# Altium schematic symbol library Componentes.SchLib: 30 symbols
Pins are listed as number, name and electrical type; pins without a type are passive.

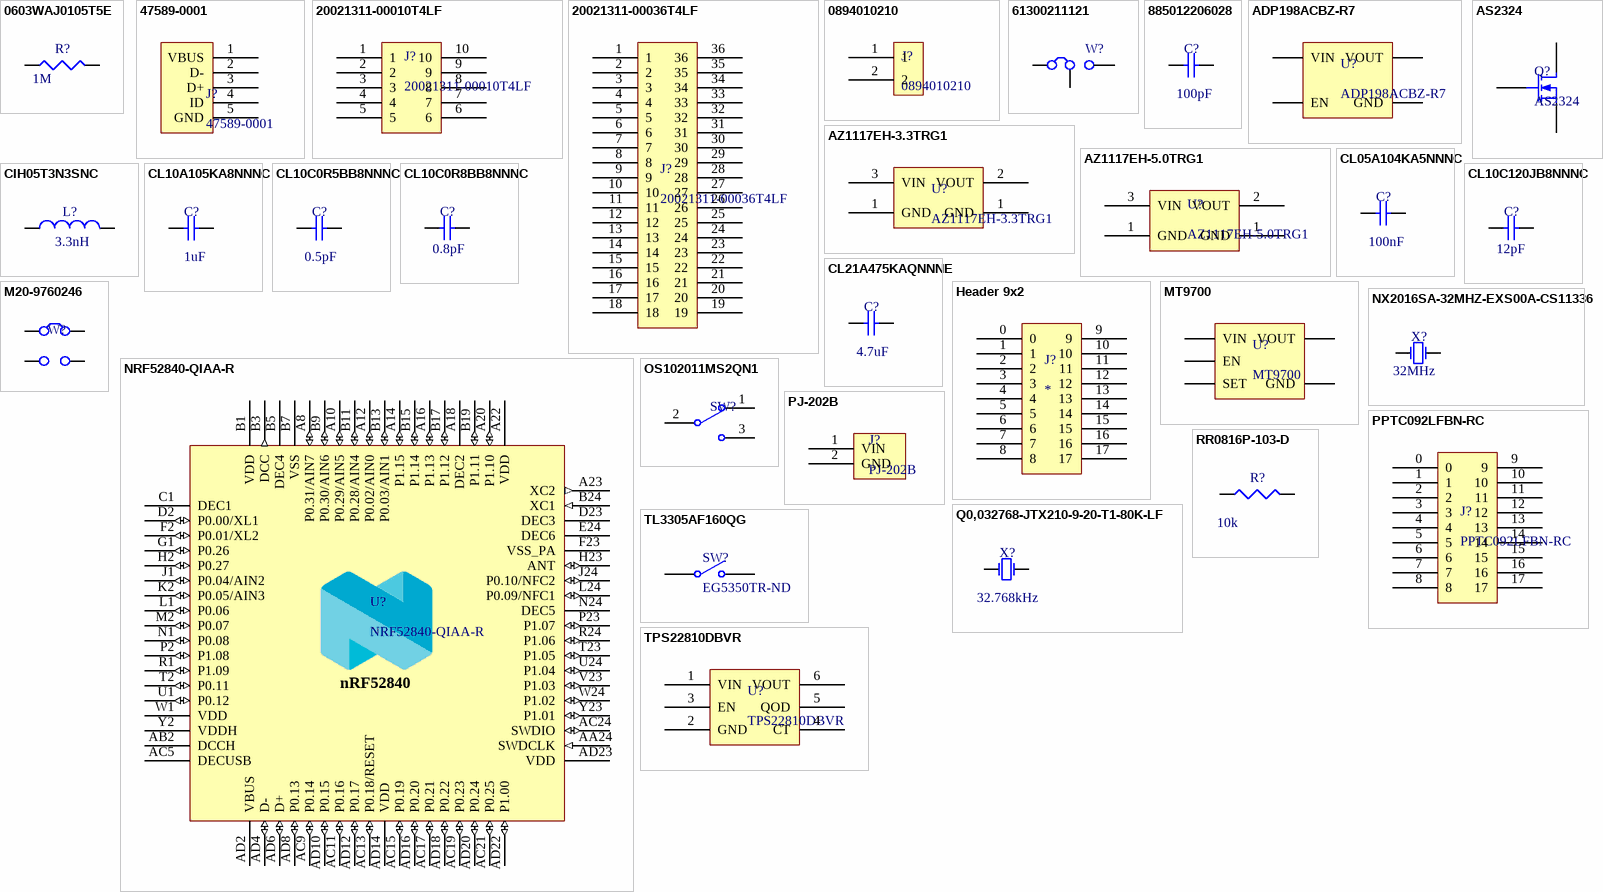
[diagram p0: symbols 0603WAJ0105T5E to TPS22810DBVR]

## 0603WAJ0105T5E
designator R?  value 1M  (hidden comment: 0603WAJ0105T5E)
footprint RESC1608X06N (Chip Resistor, 2-Leads, Body 1,60x0,80mm, IPC Medium Density)
pins: 1, 2

## 47589-0001
designator J?
MOLEX         47589-0001            MICRO USB, 2.0 TYPE AB, RECEPTACLE, SMT; Max Voltage Rating (AC): 100V; Gender: Female; Connector Type: Receptacle,USB; Number of Ports: 1; Number of Contacts: 5; Contact Resistance: 40mR; Current Rating: 1.8A; Voltage Rating (AC): 30V; USB Standard: USB 2.0; Pitch: 0.65mm; Checked: False; Supplier 1: Digi-Key; Manufacturer: Molex; Manufacturer Part Number: 47589-0001; Stock 1: 66825; Pricing 1: 1=0.74, 10=0.649, 25=0.6108, 50=0.5854, 100=0.56, 250=0.5091, 500=0.4582 (USD); Mount: PCB,Surface Mount; Weight: 0.01lb; Contact Plating: Gold; Contact Material: Copper,Copper Alloy; Number of Terminals: 5; Housing Material: Polymer; Colour: Black; Min Operating Temperature: -20°C; Max Operating Temperature: 85°C; Packaging: Tape and Reel; Termination: Solder; Orientation: Right Angle; Voltage Rating: 30V; Length: 8.65mm; Height: 0.25inch; Width: 0.25inch; Radiation Hardening: No; REACH SVHC: Unknown; Supplier Part Number 1: WM17143CT-ND
footprint USB
pins: 1 VBUS (power), 2 D- (power), 3 D+ (power), 4 ID (power), 5 GND (power)

## 20021311-00010T4LF
designator J?
10 Position Receptacle Connector 0.050" (1.27mm) Through Hole Gold; Manufacturer: Amphenol FCI; Contact Resistance: 30mR; Current Rating: 1A; Voltage Rating: 125V; Number of Positions: 10; Connector Type: Receptacle,Socket; Insulation Resistance: 1GR; Row Spacing: 0.05inch; Checked: False; Supplier 1: Digi-Key; Manufacturer Part Number: 20021311-00010T4LF; Stock 1: 21801; Pricing 1: 1=1.03, 86=0.8154, 172=0.7799, 516=0.6381, 1032=0.5672, 5074=0.4963, 10062=0.4715 (USD); Mount: Through Hole; Contact Plating: Gold; Contact Material: Copper,Copper Alloy,Gold; Colour: Black; Housing Material: Thermoplastic; Min Operating Temperature: -55°C; Max Operating Temperature: 125°C; Number of Rows: 2; Packaging: Rail/Tube; Package Quantity: 86; Termination: Solder; Max Voltage Rating (AC): 125V; Number of Contacts: 10; Gender: Receptacle; Orientation: Straight; Contact Gender: Male; Length: 5.08mm; Pitch: 1.27mm; Depth: 3mm; Termination Post Length: 2.4mm; REACH SVHC: No SVHC; Lead Free: Lead Free; Flammability Rating: UL94 V-0; Supplier Part Number 1: 609-3754-ND
footprint DIP10
pins: 1 (power), 2 (power), 3 (power), 4 (power), 5 (power), 6 (power), 7 (power), 8 (power), 9 (power), 10 (power)

## 20021311-00036T4LF
designator J?
36 Position Receptacle Connector 0.050" (1.27mm) Through Hole Gold; Manufacturer: Amphenol FCI; Current Rating: 1A; Voltage Rating: 125V; Contact Resistance: 30mR; Number of Positions: 36; Connector Type: Receptacle,Socket; Gender: Female; Row Spacing: 0.05inch; CHECKED: false; Supplier 1: Digi-Key; Manufacturer Part Number: 20021311-00036T4LF; Stock 1: 859; Pricing 1: 1=2.66, 25=2.3368, 100=2.1242, 500=1.8056, 1000=1.5401, 5000=1.3807 (USD); Mount: Through Hole; Contact Plating: Gold; Contact Material: Copper Alloy; Colour: Black; Housing Material: Plastic; Min Operating Temperature: -40°C; Max Operating Temperature: 85°C; Packaging: Rail/Tube; Number of Rows: 2; Package Quantity: 25; Termination: Solder; Number of Contacts: 36; Max Voltage Rating (AC): 125V; Orientation: Straight; Length: 21.59mm; Pitch: 1.27mm; Depth: 3mm; Supplier Part Number 1: 609-3765-ND
footprint DIP36
pins: 1, 2, 3, 4, 5, 6, 7, 8, 9, 10, 11, 12, 13, 14, 15, 16, 17, 18, 19, 20, 21, 22, 23, 24, 25, 26, 27, 28, 29, 30, 31, 32, 33, 34, 35, 36

## 0894010210
designator J?
Conn Shrouded Header HDR 2 POS 2mm Solder RA Thru-Hole Bag; Manufacturer: Molex; Number of Positions: 2; Connector Type: Male Pin; Checked: False; Supplier 1: Digi-Key; Manufacturer Part Number: 0894010210; Stock 1: 9337; Pricing 1: 1=0.13, 10=0.123, 100=0.0757, 500=0.0626, 1000=0.0548, 5000=0.047, 10000=0.0457 (USD); Mount: Through Hole; Contact Material: Brass; Contact Plating: Copper,Tin; Colour: Natural; Housing Material: Nylon; Housing Colour: Natural; Min Operating Temperature: -25°C; Max Operating Temperature: 85°C; Number of Rows: 1; Package Quantity: 9000; Packaging: Bulk; Termination: Solder; Number of Contacts: 2; Orientation: Right Angle; Length: 6mm; Pitch: 2mm; Depth: 7.6mm; Radiation Hardening: No; Supplier Part Number 1: WM14854-ND
footprint DIP2
pins: 1 (power), 2 (power)

## 61300211121
designator W?  (value not drawn)
Headers & Wire Housings WR-PHD 2.54mm Header 2P THT; Manufacturer: Wurth Electronics; Current Rating: 3A; Voltage Rating: 250V; Number of Positions: 2; Gender: Male; Connector Type: Male Pin; Pitch: 0.1inch; Supplier 1: Digi-Key; Manufacturer Part Number: 61300211121; Stock 1: 140403; Pricing 1: 1=0.13, 10=0.106, 25=0.088, 50=0.074, 100=0.067, 1000=0.061 (USD); Mount: Through Hole; Contact Plating: Gold; Housing Material: PBT; Contact Material: Copper,Copper Alloy; Colour: Black; Min Operating Temperature: -40°C; Max Operating Temperature: 125°C; Number of Rows: 1; Contact Gender: Male; Packaging: Bulk; Termination: Through Hole; Number of Contacts: 2; Contact Mating Length: 0.236inch; REACH SVHC: Unknown; Lead Free: Lead Free; ComponentLink1URL: http://www.mouser.com/ds/2/445/6130xx11121-538006.pdf; ComponentLink1Description: http://www.mouser.com/ds/2/445/6130xx11121-538006.pdf; Supplier Part Number 1: 732-5315-ND
footprint DIP3
pins: 1 C1, 2 C2, 3 C1

## 885012206028
designator C?  value 100pF  (hidden comment: 885012206028)
Wurth Elektronik 0603 WCAP-CSGP 100pF Ceramic Multilayer Capacitor, 16 V dc, +125°C, X7R Dielectric, ±10%; Manufacturer: Wurth Electronics; Voltage Rating: 16V; Supplier 1: Digi-Key; Manufacturer Part Number: 885012206028; Stock 1: 4208; Pricing 1: 1=0.1, 10=0.021, 100=0.0192, 500=0.017 (USD); Mount: Surface Mount; Case/Package: 0603; Case Code (Metric): 1608; Case Code (Imperial): 0603; Min Operating Temperature: -55°C; Max Operating Temperature: 125°C; Packaging: Tape and Reel; Capacitance: 100pF; Tolerance: 10%; Length: 0.063inch; Width: 0.031inch; Thickness: 0.034inch; Supplier Part Number 1: 732-7947-1-ND
footprint CAPC1608X09N (Chip Capacitor, 2-Leads, Body 1,60x0,80mm, IPC Medium Density)
pins: 1, 2

## ADP198ACBZ-R7
designator U?
ANALOG DEVICES         ADP198ACBZ-R7             Power Load Switch, Reverse Current Blocking, High Side, Active High, 1 Output, 6.5V, 1A, WLCSP-4; Number of Outputs: 1; Interface: On/Off; On-State Resistance: 50mR; Turn-On Delay Time: 450us; Min Input Voltage: 1.65V; Operating Supply Current: 1.1uA; Supplier 1: Digi-Key; Manufacturer: Analog Devices; Manufacturer Part Number: ADP198ACBZ-R7; Stock 1: 9438; Pricing 1: 1=1.19, 10=1.063, 100=0.8292, 500=0.685, 1000=0.5408 (USD); Mount: Surface Mount; Number of Pins: 4; Weight: 0.002413oz; Min Operating Temperature: -40°C; Max Operating Temperature: 85°C; Package Quantity: 1; Packaging: Tape and Reel; Output Current: 1A; Max Output Current: 1A; Max Input Voltage: 6.5V; Fault Protection: Reverse Current; Operating Supply Voltage: 6.5V; Output Configuration: High Side; Length: 0.99mm; Height: 0.37mm; Width: 1.065mm; Radiation Hardening: No; REACH SVHC: No SVHC; Lead Free: Contains Lead; ComponentLink1URL: http://www.analog.com/media/en/technical-documentation/data-sheets/ADP198.pdf; ComponentLink1Description: http://www.analog.com/media/en/technical-documentation/data-sheets/ADP198.pdf; ComponentLink2URL: http://www.mouser.com/ds/2/609/ADP198-878869.pdf; ComponentLink2Description: http://www.mouser.com/ds/2/609/ADP198-878869.pdf; ComponentLink3URL: http://www.farnell.com/datasheets/2256319.pdf; ComponentLink3Description: http://www.farnell.com/datasheets/2256319.pdf; ComponentLink4URL: https://www.verical.com/server-webapp/html/getDatasheet?partID=479119; ComponentLink4Description: https://www.verical.com/server-webapp/html/getDatasheet?partID=479119; ComponentLink5URL: http://www.produktinfo.conrad.com/datenblaetter/1200000-1299999/001250042-da-01-en-IC_HIGH_SIDE_L_ADP198ACBZ_R7_WLCSP_4_ADI.pdf; ComponentLink5Description: http://www.produktinfo.conrad.com/datenblaetter/1200000-1299999/001250042-da-01-en-IC_HIGH_SIDE_L_ADP198ACBZ_R7_WLCSP_4_ADI.pdf; Supplier Part Number 1: ADP198ACBZ-R7CT-ND
footprint BGA4C50P2X2_95X102X64 (BGA, 4-Leads, Body 0,95x1,02mmx0,64mm, Pitch 0,50mm)
pins: A1 VIN, A2 VOUT, B1 EN, B2 GND

## AS2324
designator Q?
footprint SOT23127P600-8N-AS2324
pins: 1 G, 2 S, 3 D

## AZ1117EH-3.3TRG1
designator U?
LDO Voltage Regulators LDO BJT HiCurr; Manufacturer: Diodes; Output Voltage: 3.3V; Output Current: 1A; Dropout Voltage: 1.1V; Number of Regulators: 1; Max Input Voltage: 13V; Operating Supply Current: 3.5mA; Power Supply Rejection Ratio (PSRR): 70dB; Polarity: Positive; Accuracy: 1%; Reference Voltage: 1.262V; Output Type: Fixed; Supplier 1: Digi-Key; Manufacturer Part Number: AZ1117EH-3.3TRG1; Stock 1: 97054; Pricing 1: 1=0.43, 10=0.321, 100=0.1815, 500=0.1202, 1000=0.0922 (USD); Mount: Surface Mount; Case/Package: TO-261-4; Number of Pins: 3; Weight: 0.000282oz; Contact Plating: Tin; Min Operating Temperature: -40°C; Max Operating Temperature: 125°C; Packaging: Tape and Reel; Number of Outputs: 1; Package Quantity: 4000; Quiescent Current: 3.5mA; Max Output Current: 1A; Lead Free: Lead Free; Supplier Part Number 1: AZ1117EH-3.3TRG1DICT-ND
footprint SOT230P700X180-4N (SOT223, 4-Leads, Body 6,50x7,00mm (avg), Pitch 2,30mm, IPC Medium Density)
pins: 1 GND (power), 1 GND (power), 2 VOUT (power), 3 VIN (power)

## AZ1117EH-5.0TRG1
designator U?
LDO Voltage Regulators LDO BJT HiCurr 1A 1.15V to 12V; Manufacturer: Diodes; Output Voltage: 5V; Dropout Voltage: 1.1V; Number of Regulators: 1; Max Input Voltage: 13V; Operating Supply Current: 3.5mA; Power Supply Rejection Ratio (PSRR): 70dB; Polarity: Positive; Accuracy: 1%; Reference Voltage: 1.262V; Output Type: Fixed; Supplier 1: Digi-Key; Manufacturer Part Number: AZ1117EH-5.0TRG1; Stock 1: 41027; Pricing 1: 1=0.43, 10=0.321, 100=0.1815, 500=0.1202, 1000=0.0922 (USD); Mount: Surface Mount; Case/Package: TO-261-4; Number of Pins: 3; Weight: 0.000282oz; Min Operating Temperature: -40°C; Max Operating Temperature: 125°C; Packaging: Tape and Reel; Output Current: 1A; Number of Outputs: 1; Package Quantity: 4000; Quiescent Current: 3.5mA; Max Output Current: 1A; Supplier Part Number 1: AZ1117EH-5.0TRG1DICT-ND
footprint SOT230P700X180-4N (SOT223, 4-Leads, Body 6,50x7,00mm (avg), Pitch 2,30mm, IPC Medium Density)
pins: 1 GND (power), 1 GND (power), 2 VOUT (power), 3 VIN (power)

## CIH05T3N3SNC
designator L?  value 3.3nH  (hidden comment: CIH05T3N3SNC)
Inductor High Frequency Chip Multi-Layer 3.3nH 0.3nH 100MHz 8Q-Factor Ceramic 300mA 190mOhm DCR 0402 T/R; Manufacturer: Samsung; Shielding: Unshielded; DC Resistance (DCR): 190mR; Self Resonant Frequency: 6GHz; Supplier 1: Digi-Key; Manufacturer Part Number: CIH05T3N3SNC; Stock 1: 68140; Pricing 1: 1=0.1, 10=0.015, 100=0.0102, 500=0.0082, 1000=0.007, 2500=0.0063 (USD); Mount: Surface Mount; Case/Package: 0402; Case Code (Metric): 1005; Case Code (Imperial): 0402; Core Material: Ceramic; Min Operating Temperature: -55°C; Max Operating Temperature: 125°C; Packaging: Cut Tape; Current Rating: 300mA; Inductance: 3.3nh; Test Frequency: 100MHz; Max DC Current: 300mA; DC Current: 300mA; Military Standard: Not; Length: 0.039inch; Height: 0.55mm; Width: 0.02inch; Depth: 0.55mm; Radiation Hardening: No; Lead Free: Lead Free; Supplier Part Number 1: 1276-6294-1-ND
footprint INDC1005X06N (Chip Inductor, 2-Leads, Body 1,00x0,50mm, IPC Medium Density)
pins: 1, 2

## CL05A104KA5NNNC
designator C?  value 100nF  (hidden comment: CL05A104KA5NNNC)
Cap Ceramic 0.1uF 25V X5R 10% SMD 0402 85C Paper T/R; Manufacturer: Samsung; Supplier 1: Digi-Key; Manufacturer Part Number: CL05A104KA5NNNC; Stock 1: 100000; Pricing 1: 1=0.1, 10=0.04, 100=0.0176, 500=0.0126, 1000=0.0099, 2500=0.009, 5000=0.0083 (USD); Mount: Surface Mount; Case/Package: 0402; Case Code (Metric): 1005; Case Code (Imperial): 0402; Min Operating Temperature: -55°C; Max Operating Temperature: 85°C; Capacitance: 100nF; Packaging: Tape and Reel; Tolerance: 10%; Package Quantity: 1; Voltage Rating: 25V; Dielectric: X5R; Voltage: 25V; Voltage Rating (DC): 25V; Length: 1mm; Height: 0.5mm; Width: 0.02inch; Thickness: 0.022inch; Depth: 0.5mm; Radiation Hardening: No; Lead Free: Lead Free; Supplier Part Number 1: 1276-1043-1-ND
footprint CAPC1005X06N (Chip Capacitor, 2-Leads, Body 1,00x0,50mm, IPC Medium Density)
pins: 1, 2

## CL10A105KA8NNNC
designator C?  value 1uF  (hidden comment: CL10A105KA8NNNC)
Cap Ceramic 1uF 25V X5R 10% SMD 0603 85C Paper T/R; Manufacturer: Samsung; Supplier 1: Digi-Key; Manufacturer Part Number: CL10A105KA8NNNC; Stock 1: 40000; Pricing 1: 1=0.1, 10=0.052, 100=0.0231, 500=0.0165, 1000=0.013 (USD); Mount: Surface Mount; Case/Package: 0603; Case Code (Metric): 1608; Case Code (Imperial): 0603; Material: Ceramic; Contact Plating: Tin; Min Operating Temperature: -55°C; Max Operating Temperature: 85°C; Capacitance: 1uF; Tolerance: 10%; Dielectric: X5R; Voltage: 25V; Voltage Rating (DC): 25V; Packaging: Tape and Reel; Package Quantity: 1; Voltage Rating: 25V; Length: 1.6mm; Height: 0.8mm; Depth: 0.8mm; Width: 0.031inch; Thickness: 0.035inch; Radiation Hardening: No; Lead Free: Lead Free; Supplier Part Number 1: 1276-1102-1-ND
footprint CAPC1608X09N_2 (Chip Capacitor, 2-Leads, Body 1,60x0,80mm, IPC Medium Density)
pins: 1, 2

## CL10C0R5BB8NNNC
designator C?  value 0.5pF  (hidden comment: CL10C0R5BB8NNNC)
Cap Ceramic 0.5pF 50V C0G 0.1pF SMD 0603 125C Paper T/R; Manufacturer: Samsung; Dielectric: NP0; Temperature Coefficient: 300ppm/°C; Supplier 1: Digi-Key; Manufacturer Part Number: CL10C0R5BB8NNNC; Stock 1: 28897; Pricing 1: 1=0.1, 10=0.049, 100=0.0217, 500=0.0155, 1000=0.0122 (USD); Mount: Surface Mount; Case/Package: 0603; Case Code (Metric): 1608; Case Code (Imperial): 0603; Material: Ceramic; Contact Plating: Matte,Tin; Min Operating Temperature: -55°C; Max Operating Temperature: 125°C; Voltage Rating: 50V; Package Quantity: 1; Packaging: Tape and Reel; Capacitance: 0.5pF; Voltage: 50V; Length: 1.6mm; Height: 0.8mm; Width: 0.031inch; Thickness: 0.035inch; Depth: 0.8mm; Radiation Hardening: No; Supplier Part Number 1: 1276-1818-1-ND
footprint CAPC1608X09N_2 (Chip Capacitor, 2-Leads, Body 1,60x0,80mm, IPC Medium Density)
pins: 1, 2

## CL10C0R8BB8NNNC
designator C?  value 0.8pF  (hidden comment: CL10C0R8BB8NNNC)
Cap Ceramic 0.8pF 50V C0G 0.1pF SMD 0603 125C Paper T/R; Manufacturer: Samsung; Supplier 1: Digi-Key; Manufacturer Part Number: CL10C0R8BB8NNNC; Stock 1: 40000; Pricing 1: 1=0.1, 10=0.059, 100=0.0264, 500=0.0189, 1000=0.0148 (USD); Mount: Surface Mount; Case/Package: 0603; Case Code (Metric): 1608; Case Code (Imperial): 0603; Min Operating Temperature: -55°C; Max Operating Temperature: 125°C; Capacitance: 0.8pF; Packaging: Tape and Reel; Package Quantity: 1; Voltage Rating: 50V; Dielectric: C0G; Voltage Rating (DC): 50V; Length: 1.6mm; Height: 0.8mm; Width: 0.031inch; Thickness: 0.035inch; Depth: 0.8mm; Radiation Hardening: No; Supplier Part Number 1: 1276-2148-1-ND
footprint CAPC1608X09N_2 (Chip Capacitor, 2-Leads, Body 1,60x0,80mm, IPC Medium Density)
pins: 1, 2

## CL10C120JB8NNNC
designator C?  value 12pF  (hidden comment: CL10C120JB8NNNC)
Cap Ceramic 12pF 50V C0G 5% SMD 0603 125C Paper T/R; Manufacturer: Samsung; Temperature Coefficient: 300ppm/°C; Supplier 1: Digi-Key; Manufacturer Part Number: CL10C120JB8NNNC; Stock 1: 40000; Pricing 1: 1=0.1, 10=0.07, 100=0.0314, 500=0.0224, 1000=0.0176 (USD); Mount: Surface Mount; Case/Package: 0603; Case Code (Metric): 1608; Case Code (Imperial): 0603; Material: Ceramic; Contact Plating: Tin; Min Operating Temperature: -55°C; Max Operating Temperature: 125°C; Tolerance: 5%; Capacitance: 12pF; Dielectric: C0G; Voltage: 50V; Voltage Rating (DC): 50V; Voltage Rating: 50V; Package Quantity: 1; Packaging: Tape and Reel; Length: 1.6mm; Height: 0.8mm; Depth: 0.8mm; Width: 0.031inch; Thickness: 0.035inch; Radiation Hardening: No; Lead Free: Lead Free; Supplier Part Number 1: 1276-1254-1-ND
footprint CAPC1608X09N_2 (Chip Capacitor, 2-Leads, Body 1,60x0,80mm, IPC Medium Density)
pins: 1, 2

## CL21A475KAQNNNE
designator C?  value 4.7uF  (hidden comment: CL21A475KAQNNNE)
Cap Ceramic 4.7uF 25V X5R 10% SMD 0805 85C Embossed T/R; Manufacturer: Samsung; Supplier 1: Digi-Key; Manufacturer Part Number: CL21A475KAQNNNE; Stock 1: 20000; Pricing 1: 1=0.23, 10=0.158, 100=0.0802, 500=0.0549, 1000=0.0485 (USD); Mount: Surface Mount; Case/Package: 0805; Case Code (Metric): 2012; Case Code (Imperial): 0805; Min Operating Temperature: -55°C; Max Operating Temperature: 85°C; Package Quantity: 1; Packaging: Tape and Reel; Capacitance: 4.7uF; Tolerance: 10%; Voltage Rating: 25V; Dielectric: X5R; Voltage Rating (DC): 25V; Length: 2mm; Height: 1.25mm; Width: 0.049inch; Thickness: 0.055inch; Depth: 1.25mm; Radiation Hardening: No; Lead Free: Lead Free; Supplier Part Number 1: 1276-1244-1-ND
footprint CAPC2013X14N (Chip Capacitor, 2-Leads, Body 2,00x1,27mm, IPC Medium Density)
pins: 1, 2

## Header 9x2
designator J?
HEADER 9X2A; Checked: false
pins: 0, 1, 2, 3, 4, 5, 6, 7, 8, 9, 10, 11, 12, 13, 14, 15, 16, 17

## M20-9760246
designator W?  (value not drawn)
Headers & Wire Housings 02+02 DIL VERTICAL PIN HEADER TIN; Manufacturer: Harwin; Number of Positions: 4; Connector Type: Male Pin; Max Current Rating: 3A; Contact Resistance: 30mR; Voltage Rating: 750V; Pitch: 2.54mm; Row Spacing: 0.1inch; Supplier 1: Digi-Key; Manufacturer Part Number: M20-9760246; Stock 1: 13883; Pricing 1: 1=0.19, 10=0.179, 100=0.1102, 500=0.0912, 1000=0.0798, 5000=0.0684, 10000=0.0665 (USD); Mount: Through Hole; Colour: Black; Contact Plating: Tin; Contact Material: Brass; Housing Colour: Black; Housing Material: Nylon; Min Operating Temperature: -40°C; Max Operating Temperature: 105°C; Packaging: Bulk; Termination: Solder; Package Quantity: 1000; Number of Rows: 2; Orientation: Straight; Current Rating: 3A; Length: 5.08mm; Depth: 5.08mm; Contact Mating Length: 0.228inch
footprint DIP4
pins: 1 C1, 2 C2, 3 C3, 4 C4

## MT9700
designator U?
footprint SOT23127P600-8N
pins: 1 VOUT, 2 GND, 3 SET, 4 EN, 5 VIN

## NRF52840-QIAA-R
designator U?
Manufacturer: Nordic Semiconductor; Supplier 1: Digi-Key; Manufacturer Part Number: NRF52840-QIAA-R; Stock 1: 13083; Pricing 1: 1=7.43, 10=6.815, 25=6.1952, 100=5.5755, 250=5.1109, 500=4.6463, 1000=4.1816 (USD); Supplier Part Number 1: 1490-1071-1-ND
footprint AQFN50P700X700X85_HS-74N
pins: A8 P0.31/AIN7 (io), A10 P0.29/AIN5 (io), A12 P0.02/AIN0 (io), A14 P1.15 (io), A16 P1.13 (io), A18 DEC2 (power), A20 P1.10 (io), A22 VDD (power), A23 XC2 (out), AA24 SWDCLK (in), AB2 DCCH (power), AC5 DECUSB (power), AC9 P0.14 (io), AC11 P0.16 (io), AC13 P0.18/RESET (io), AC15 P0.19 (io), AC17 P0.21 (io), AC19 P0.23 (io), AC21 P0.25 (io), AC24 SWDIO (io), AD2 VBUS (power), AD4 D- (io), AD6 D+ (io), AD8 P0.13 (io), AD10 P0.15 (io), AD12 P0.17 (io), AD14 VDD (power), AD16 P0.20 (io), AD18 P0.22 (io), AD20 P0.24 (io), AD22 P1.00 (io), AD23 VDD (power), B1 VDD (power), B3 DCC (out), B5 DEC4 (power), B7 VSS (power), B9 P0.30/AIN6 (io), B11 P0.28/AIN4 (io), B13 P0.03/AIN1 (io), B15 P1.14 (io), B17 P1.12 (io), B19 P1.11 (io), B24 XC1 (in), C1 DEC1 (power), D2 P0.00/XL1 (io), D23 DEC3 (power), E24 DEC6 (power), F2 P0.01/XL2 (io), F23 VSS_PA (power), G1 P0.26 (io), H2 P0.27 (io), H23 ANT (io), J1 P0.04/AIN2 (io), J24 P0.10/NFC2 (io), K2 P0.05/AIN3 (io), L1 P0.06 (io), L24 P0.09/NFC1 (io), M2 P0.07 (io), N1 P0.08 (io), N24 DEC5 (power), P2 P1.08 (io), P23 P1.07 (io), R1 P1.09 (io), R24 P1.06 (io), T2 P0.11 (io), T23 P1.05 (io), U1 P0.12 (io), U24 P1.04 (io), V23 P1.03 (io), W1 VDD (power), W24 P1.02 (io), Y2 VDDH (power), Y23 P1.01 (io)
text: nRF52840

## NX2016SA-32MHZ-EXS00A-CS11336
designator X?  value 32MHz  (hidden comment: NX2016SA-32MHZ-EXS00A-CS11336)
Manufacturer: NDK; Supplier 1: Digi-Key; Manufacturer Part Number: NX2016SA-32MHZ-EXS00A-CS11336; Stock 1: 2762; Pricing 1: 1=0.64, 10=0.531, 50=0.4776, 100=0.4246, 500=0.4034, 1000=0.3397 (USD); Supplier Part Number 1: 644-1324-1-ND
footprint OSC1
pins: 1 OSC1, 2 GND (power) hidden to GND, 3 OSC2, 4 GND hidden to GND

## OS102011MS2QN1
designator SW?  (value not drawn)
C & K COMPONENTS         OS102011MS2QN1             Slide Switch, SPDT, On-On, Through Hole, OS Series, 100 mA; Manufacturer: ITT C&K; Mechanical Life: 10000Cycles; Actuator Material: Acetal,Polyacetal,Polyoxymethylene; Max Current Rating: 100mA; Voltage Rating (DC): 12V; Contact Resistance: 20mR; Contact Style: Non-Shorting; Insulation Resistance: 100MR; Switch Travel: 2mm; Actuator Type: Standard; Actuator Length: 4mm; Supplier 1: Digi-Key; Manufacturer Part Number: OS102011MS2QN1; Stock 1: 29366; Pricing 1: 1=0.43, 10=0.413, 25=0.4048, 50=0.3616, 100=0.3444, 250=0.3358, 500=0.2841, 1000=0.2755, 5000=0.2411 (USD); Mount: PCB,Through Hole; Contact Material: Brass,Copper Alloy,Silver; Contact Plating: Gold,Silver; Housing Material: Resin; Min Operating Temperature: -30°C; Max Operating Temperature: 70°C; Throw Configuration: SPDT; Packaging: Bulk; Max Voltage Rating (DC): 12V; Package Quantity: 300; Contact Current Rating: 100mA; Current Rating: 100mA; Termination: PC Pins; Electrical Life: 10000Cycles; Orientation: Vertical; Switch Function: On-On; Length: 8.6mm; Depth: 4.3mm; Radiation Hardening: No; REACH SVHC: No SVHC; Lead Free: Lead Free; Supplier Part Number 1: CKN9565-ND
footprint DIP5-SW
pins: 1 (power), 2 (power), 3 (power)

## PJ-202B
designator J?
PJ-202 Series 2.5 x 6.5 mm 16 V Horizontal Power Jack w/ Kinked Pins; Manufacturer: CUI; Shielding: Unshielded; Current Rating: 2.5A; Voltage Rating: 24V; Gender: Male; Insulation Resistance: 100MR; Number of Conductors: 2; Supplier 1: Digi-Key; Manufacturer Part Number: PJ-202B; Stock 1: 39597; Pricing 1: 1=0.61, 10=0.57, 25=0.5132, 50=0.456, 100=0.437, 250=0.399, 500=0.38, 1000=0.3135, 2500=0.285 (USD); Mount: Through Hole; Contact Plating: Nickel; Colour: Black; Contact Material: Copper; Housing Colour: Black; Housing Material: Thermoplastic; Min Operating Temperature: -25°C; Max Operating Temperature: 85°C; Package Quantity: 500; Packaging: Bulk; Termination: Through Hole; Connector Type: Jack; Orientation: Horizontal; Contact Gender: Male; Diameter: 2.5mm; Lead Free: Lead Free; Flammability Rating: UL94 V-0; Supplier Part Number 1: CP-202B-ND
footprint POWER_JACK
pins: 1 VIN (power), 2 GND (power), 3 GND (power) hidden to GND

## PPTC092LFBN-RC
designator J?
CONN HEADER FMAL 18PS .1" DL TIN; Manufacturer: Sullins; Number of Positions: 18; Connector Type: Header,Socket; Pitch: 0.1inch; Checked: False; Supplier 1: Digi-Key; Manufacturer Part Number: PPTC092LFBN-RC; Stock 1: 1992; Pricing 1: 1=1.09, 10=0.957, 100=0.8257, 500=0.6755, 1000=0.6005, 5000=0.5421 (USD); Mount: Through Hole; Colour: Black; Contact Plating: Tin; Contact Material: Bronze; Housing Material: Plastic; Package Quantity: 1000; Number of Rows: 2; Packaging: Bulk; Termination: Solder; Length: 23.4mm; Height: 8.5mm; Row Spacing: 0.1inch; Width: 5mm; Lead Free: Lead Free; Supplier Part Number 1: S7077-ND
pins: 0, 1, 2, 3, 4, 5, 6, 7, 8, 9, 10, 11, 12, 13, 14, 15, 16, 17

## Q0,032768-JTX210-9-20-T1-80K-LF
designator X?  value 32.768kHz  (hidden comment: Q0,032768-JTX210-9-20-T1-80K-LF)
Manufacturer: Jauch; Supplier 1: Digi-Key; Manufacturer Part Number: Q0,032768-JTX210-9-20-T1-80K-LF; Stock 1: 0; Supplier Part Number 1: 1908-1304-2-ND
footprint OSC2
pins: 1 OSC1, 2 OSC2

## RR0816P-103-D
designator R?  value 10k  (hidden comment: RR0816P-103-D)
RES SMD 10K OHM 0.5% 1/16W 0603; Manufacturer: Susumu; Power (Watts): 0.063W, 1/16W; Temperature Coefficient: ±25ppm/°C; Supplier 1: Digi-Key; Manufacturer Part Number: RR0816P-103-D; RoHS: RoHS Compliant; Category: Resistors; Stock 1: 362461; Pricing 1: 1=0.09, 10=0.084, 100=0.0321, 1000=0.01412, 2500=0.01219 (EUR); Packaging: Cut Tape (CT); Part Status: Active; Tolerance: ±0.5%; Composition: Thin Film; Features: -; Operating Temperature: -55°C ~ 125°C; Package / Case: 0603 (1608 Metric); Supplier Device Package: -; Size / Dimension: 0.063" L x 0.032" W (1.60mm x 0.80mm); Height - Seated (Max): 0.020" (0.50mm); Failure Rate: -; ComponentLink1URL: http://www.susumu.co.jp/common/pdf/n_catalog_partition05_en.pdf; ComponentLink1Description: http://www.susumu.co.jp/common/pdf/n_catalog_partition05_en.pdf; Supplier Part Number 1: RR08P10.0KDCT-ND
footprint RESC1608X05N (Chip Resistor, 2-Leads, Body 1,60x0,80mm, IPC Medium Density)
pins: 1, 2

## TL3305AF160QG
designator SW?, comment EG5350TR-ND
SWITCH TACTILE SPST-NO 50MA 12V; Manufacturer: E-Switch; Manufacturer Part Number: TL3305AF160QG; Switch Function: Off-Mom; Contact Rating @ Voltage: 0.05A @ 12VDC; Actuator Type: Standard; Actuator Height off PCB, Vertical: 3.80mm; Actuator Orientation: Top Actuated; Outline: 4.50mm x 4.50mm; Illumination: Non-Illuminated; Operating Force: 160gf; Switch Travel: 0.20mm; Mechanical Life: 500,000 Cycles; Checked: 0; Supplier 1: Digi-Key; RoHS: RoHS Compliant; Category: Switches; Stock 1: 50000; Pricing 1: 2000=0.08803, 6000=0.07294 (EUR); Packaging: Tape & Reel (TR); Part Status: Active; Circuit: SPST-NO; Mounting Type: Surface Mount; Actuator Length, Right Angle: -; Termination Style: Gull Wing; Illumination Type, Color: -; Illumination Voltage (Nominal): -; Ingress Protection: -; Features: -; Operating Temperature: -20°C ~ 70°C; Actuator Material: -; ComponentLink1URL: http://spec_sheets.e-switch.com/specs/P010468.pdf; ComponentLink1Description: http://spec_sheets.e-switch.com/specs/P010468.pdf; Supplier Part Number 1: EG5350TR-ND
footprint SW1
pins: 1, 2 hidden, 3, 4 hidden

## TPS22810DBVR
designator U?
footprint SOT23127P600-8N-TPS22810DBVR
pins: 1 VIN (power), 2 GND (power), 3 EN (power), 4 CT (power), 5 QOD (power), 6 VOUT (power)